# EAGLE library part UCC27531 (library Xenon)
Single-channel, high-speed gate driver
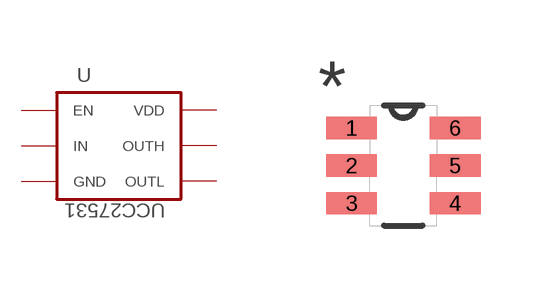
[diagram p4: symbol with the pads of SOT95P280X145-6N; footprint SOT95P280X145-6N]

Designator prefix U

## UCC27531 (PACKAGE: SOT-23-6; SUPPLIER: Texas Instruments)  [SOT95P280X145-6N]
1  EN  in
2  IN  in
3  VDD  pwr
4  GND  pwr
5  OUTL  out
6  OUTH  out

## Footprint SOT95P280X145-6N (pad centres in mm)
smd 1.27 x 0.559: 1 -1.295,0.94; 2 -1.295,0; 3 -1.295,-0.94; 4 1.295,-0.94; 5 1.295,0; 6 1.295,0.94